# Altium footprint library WR-PHD_Pin Header.PcbLib: 232 footprints (part 12 of 15)
Each footprint in its own frame and in the unit in brackets; x right, y up, seen from the top. Pads: shape width x height; smd on the part's side, far side on the other; paste and mask are expansions set on the pad; w line width, h text height; cw(c..) or ccw(c..) is an arc to the next point about the centre after c.
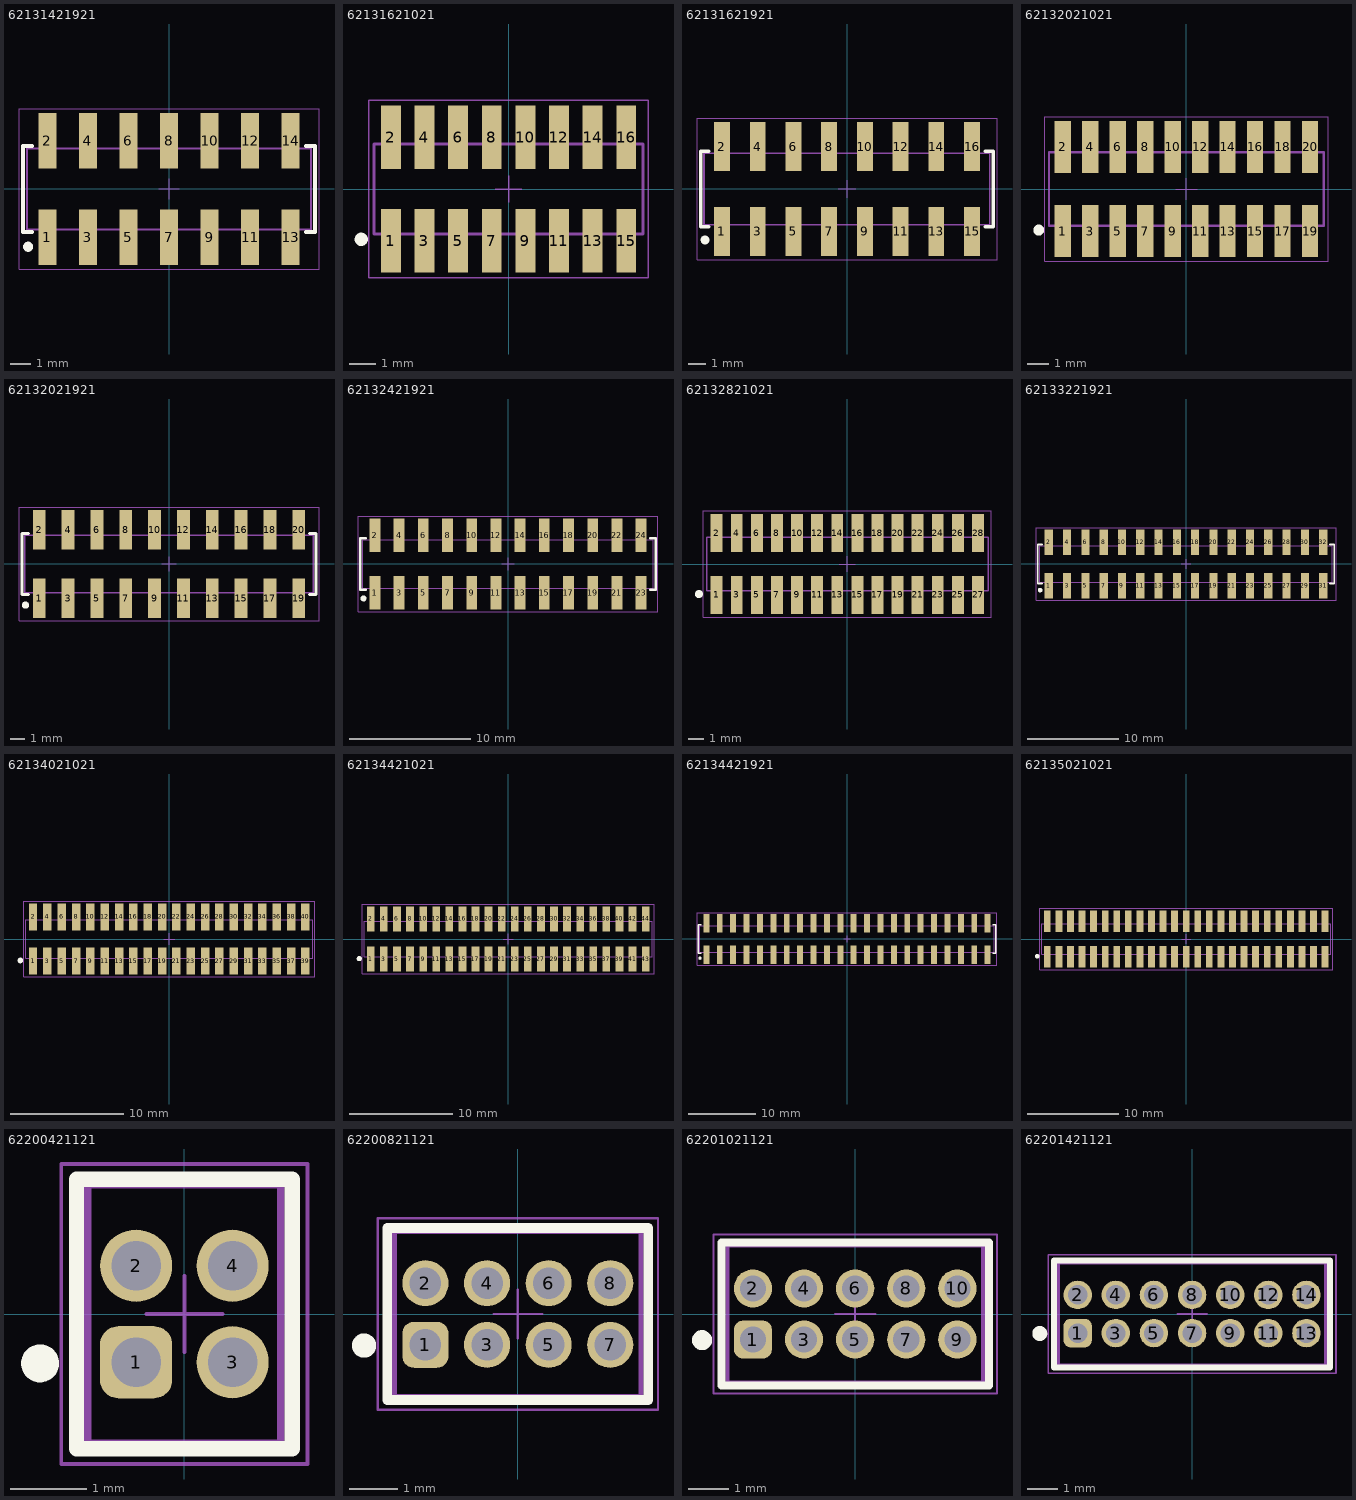
[diagram p11: the footprints below, top view; thin cyan lines are the x and y axes]

## 62131421921 [mm] "Pin Header, pitch 2.00 mm, SMD, Vertical, dual row, 14p"
height 6.8
pads (14):
  rect 0.89x2.75 smd: 1(-6,-2.375) 2(-6,2.375) 3(-4,-2.375) 4(-4,2.375) 5(-2,-2.375) 6(-2,2.375) 7(0,-2.375) 8(0,2.375) 9(2,-2.375) 10(2,2.375) 11(4,-2.375) 12(4,2.375) 13(6,-2.375) 14(6,2.375)
Top Overlay:
  circle w0.25: c-6.95,-2.85 r0.125
  lines w0.2: -6.75,-2.125 -7.2,-2.125 -7.2,2.125 -6.75,2.125 ; 6.75,-2.125 7.2,-2.125 7.2,2.125 6.75,2.125
Top Designator:
  text ".Designator" at -7.498,-0.5 h1.5
Top Component Outline:
  lines w0.1: -6.25,-2 -6.25,-3.1 -5.75,-3.1 -5.75,-2 ; -6.25,2 -6.25,3.1 -5.75,3.1 -5.75,2 ; -4.25,-2 -4.25,-3.1 -3.75,-3.1 -3.75,-2 ; -4.25,2 -4.25,3.1 -3.75,3.1 -3.75,2 ; -2.25,-2 -2.25,-3.1 -1.75,-3.1 -1.75,-2 ; -2.25,2 -2.25,3.1 -1.75,3.1 -1.75,2 ; -0.25,-2 -0.25,-3.1 0.25,-3.1 0.25,-2 ; -0.25,2 -0.25,3.1 0.25,3.1 0.25,2 ; 1.75,-2 1.75,-3.1 2.25,-3.1 2.25,-2 ; 1.75,2 1.75,3.1 2.25,3.1 2.25,2 ; 3.75,-2 3.75,-3.1 4.25,-3.1 4.25,-2 ; 3.75,2 3.75,3.1 4.25,3.1 4.25,2 ; 5.75,-2 5.75,-3.1 6.25,-3.1 6.25,-2 ; 5.75,2 5.75,3.1 6.25,3.1 6.25,2 ; -7,-2 7,-2 7,2 -7,2 -7,-2
Top Courtyard:
  lines w0.05: -7.4,-3.95 -7.4,3.95 7.4,3.95 7.4,-3.95 -7.4,-3.95
Top Component Center:
  lines w0.05: -0.5,0 0.5,0 ; 0,-0.5 0,0.5
3D body "62131421921.stp": height 6.7, standoff 0, extent -7,-3.1 7,3.1

## 62131621021 [mm] "Pin Header, pitch 1.27 mm, SMD, Vertical, dual row, 16p"
height 6.1
pads (16):
  rect 0.75x2.4 smd: 1(-4.445,-1.95) 2(-4.445,1.95) 3(-3.175,-1.95) 4(-3.175,1.95) 5(-1.905,-1.95) 6(-1.905,1.95) 7(-0.635,-1.95) 8(-0.635,1.95) 9(0.635,-1.95) 10(0.635,1.95) 11(1.905,-1.95) 12(1.905,1.95) 13(3.175,-1.95) 14(3.175,1.95) 15(4.445,-1.95) 16(4.445,1.95)
Top Overlay:
  circle w0.25: c-5.56,-1.9 r0.125
Top Designator:
  text ".Designator" at -7.498,-0.5 h1.5
Top Component Outline:
  lines w0.1: -4.645,-1.7 -4.645,-2.5 -4.245,-2.5 -4.245,-1.7 ; -4.645,1.7 -4.645,2.5 -4.245,2.5 -4.245,1.7 ; -3.375,-1.7 -3.375,-2.5 -2.975,-2.5 -2.975,-1.7 ; -3.375,1.7 -3.375,2.5 -2.975,2.5 -2.975,1.7 ; -2.105,-1.7 -2.105,-2.5 -1.705,-2.5 -1.705,-1.7 ; -2.105,1.7 -2.105,2.5 -1.705,2.5 -1.705,1.7 ; -0.835,-1.7 -0.835,-2.5 -0.435,-2.5 -0.435,-1.7 ; -0.835,1.7 -0.835,2.5 -0.435,2.5 -0.435,1.7 ; 0.435,-1.7 0.435,-2.5 0.835,-2.5 0.835,-1.7 ; 0.435,1.7 0.435,2.5 0.835,2.5 0.835,1.7 ; 1.705,-1.7 1.705,-2.5 2.105,-2.5 2.105,-1.7 ; 1.705,1.7 1.705,2.5 2.105,2.5 2.105,1.7 ; 2.975,-1.7 2.975,-2.5 3.375,-2.5 3.375,-1.7 ; 2.975,1.7 2.975,2.5 3.375,2.5 3.375,1.7 ; 4.245,-1.7 4.245,-2.5 4.645,-2.5 4.645,-1.7 ; 4.245,1.7 4.245,2.5 4.645,2.5 4.645,1.7 ; -5.08,-1.7 -5.08,1.7 5.08,1.7 5.08,-1.7 -5.08,-1.7
Top Courtyard:
  lines w0.05: -5.28,-3.35 -5.28,3.35 5.28,3.35 5.28,-3.35 -5.28,-3.35
Top Component Center:
  lines w0.05: -0.5,0 0.5,0 ; 0,-0.5 0,0.5
3D body "62131621021.stp": height 5.9, standoff 0, extent -5.08,-2.55 5.08,2.55

## 62131621921 [mm] "Pin Header, pitch 2.00 mm, SMD, Vertical, dual row, 16p"
height 6.8
pads (16):
  rect 0.89x2.75 smd: 1(-7,-2.375) 2(-7,2.375) 3(-5,-2.375) 4(-5,2.375) 5(-3,-2.375) 6(-3,2.375) 7(-1,-2.375) 8(-1,2.375) 9(1,-2.375) 10(1,2.375) 11(3,-2.375) 12(3,2.375) 13(5,-2.375) 14(5,2.375) 15(7,-2.375) 16(7,2.375)
Top Overlay:
  circle w0.25: c-7.95,-2.85 r0.125
  lines w0.2: -7.75,-2.125 -8.2,-2.125 -8.2,2.125 -7.75,2.125 ; 7.75,-2.125 8.2,-2.125 8.2,2.125 7.75,2.125
Top Designator:
  text ".Designator" at -7.498,-0.5 h1.5
Top Component Outline:
  lines w0.1: -7.25,-2 -7.25,-3.1 -6.75,-3.1 -6.75,-2 ; -7.25,2 -7.25,3.1 -6.75,3.1 -6.75,2 ; -5.25,-2 -5.25,-3.1 -4.75,-3.1 -4.75,-2 ; -5.25,2 -5.25,3.1 -4.75,3.1 -4.75,2 ; -3.25,-2 -3.25,-3.1 -2.75,-3.1 -2.75,-2 ; -3.25,2 -3.25,3.1 -2.75,3.1 -2.75,2 ; -1.25,-2 -1.25,-3.1 -0.75,-3.1 -0.75,-2 ; -1.25,2 -1.25,3.1 -0.75,3.1 -0.75,2 ; 0.75,-2 0.75,-3.1 1.25,-3.1 1.25,-2 ; 0.75,2 0.75,3.1 1.25,3.1 1.25,2 ; 2.75,-2 2.75,-3.1 3.25,-3.1 3.25,-2 ; 2.75,2 2.75,3.1 3.25,3.1 3.25,2 ; 4.75,-2 4.75,-3.1 5.25,-3.1 5.25,-2 ; 4.75,2 4.75,3.1 5.25,3.1 5.25,2 ; 6.75,-2 6.75,-3.1 7.25,-3.1 7.25,-2 ; 6.75,2 6.75,3.1 7.25,3.1 7.25,2 ; -8,-2 8,-2 8,2 -8,2 -8,-2
Top Courtyard:
  lines w0.05: -8.4,-3.95 -8.4,3.95 8.4,3.95 8.4,-3.95 -8.4,-3.95
Top Component Center:
  lines w0.05: -0.5,0 0.5,0 ; 0,-0.5 0,0.5
3D body "62131621921.stp": height 6.7, standoff 0, extent -8,-3.1 8,3.1

## 62132021021 [mm] "Pin Header, pitch 1.27 mm, SMD, Vertical, dual row, 20p"
height 6.1
pads (20):
  rect 0.75x2.4 smd: 1(-5.715,-1.95) 2(-5.715,1.95) 3(-4.445,-1.95) 4(-4.445,1.95) 5(-3.175,-1.95) 6(-3.175,1.95) 7(-1.905,-1.95) 8(-1.905,1.95) 9(-0.635,-1.95) 10(-0.635,1.95) 11(0.635,-1.95) 12(0.635,1.95) 13(1.905,-1.95) 14(1.905,1.95) 15(3.175,-1.95) 16(3.175,1.95) 17(4.445,-1.95) 18(4.445,1.95) 19(5.715,-1.95) 20(5.715,1.95)
Top Overlay:
  circle w0.25: c-6.83,-1.9 r0.125
Top Designator:
  text ".Designator" at -7.498,-0.5 h1.5
Top Component Outline:
  lines w0.1: -5.915,-1.7 -5.915,-2.5 -5.515,-2.5 -5.515,-1.7 ; -5.915,1.7 -5.915,2.5 -5.515,2.5 -5.515,1.7 ; -4.645,-1.7 -4.645,-2.5 -4.245,-2.5 -4.245,-1.7 ; -4.645,1.7 -4.645,2.5 -4.245,2.5 -4.245,1.7 ; -3.375,-1.7 -3.375,-2.5 -2.975,-2.5 -2.975,-1.7 ; -3.375,1.7 -3.375,2.5 -2.975,2.5 -2.975,1.7 ; -2.105,-1.7 -2.105,-2.5 -1.705,-2.5 -1.705,-1.7 ; -2.105,1.7 -2.105,2.5 -1.705,2.5 -1.705,1.7 ; -0.835,-1.7 -0.835,-2.5 -0.435,-2.5 -0.435,-1.7 ; -0.835,1.7 -0.835,2.5 -0.435,2.5 -0.435,1.7 ; 0.435,-1.7 0.435,-2.5 0.835,-2.5 0.835,-1.7 ; 0.435,1.7 0.435,2.5 0.835,2.5 0.835,1.7 ; 1.705,-1.7 1.705,-2.5 2.105,-2.5 2.105,-1.7 ; 1.705,1.7 1.705,2.5 2.105,2.5 2.105,1.7 ; 2.975,-1.7 2.975,-2.5 3.375,-2.5 3.375,-1.7 ; 2.975,1.7 2.975,2.5 3.375,2.5 3.375,1.7 ; 4.245,-1.7 4.245,-2.5 4.645,-2.5 4.645,-1.7 ; 4.245,1.7 4.245,2.5 4.645,2.5 4.645,1.7 ; 5.515,-1.7 5.515,-2.5 5.915,-2.5 5.915,-1.7 ; 5.515,1.7 5.515,2.5 5.915,2.5 5.915,1.7 ; -6.35,-1.7 6.35,-1.7 6.35,1.7 -6.35,1.7 -6.35,-1.7
Top Courtyard:
  lines w0.05: -6.55,-3.35 6.55,-3.35 6.55,3.35 -6.55,3.35 -6.55,-3.35
Top Component Center:
  lines w0.05: -0.5,0 0.5,0 ; 0,-0.5 0,0.5
3D body "62132021021.stp": height 5.9, standoff 0, extent -6.35,-2.55 6.35,2.55

## 62132021921 [mm] "Pin Header, pitch 2.00 mm, SMD, Vertical, dual row, 20p"
height 6.8
pads (20):
  rect 0.89x2.75 smd: 1(-9,-2.375) 2(-9,2.375) 3(-7,-2.375) 4(-7,2.375) 5(-5,-2.375) 6(-5,2.375) 7(-3,-2.375) 8(-3,2.375) 9(-1,-2.375) 10(-1,2.375) 11(1,-2.375) 12(1,2.375) 13(3,-2.375) 14(3,2.375) 15(5,-2.375) 16(5,2.375) 17(7,-2.375) 18(7,2.375) 19(9,-2.375) 20(9,2.375)
Top Overlay:
  circle w0.25: c-9.95,-2.85 r0.125
  lines w0.2: -9.75,-2.125 -10.2,-2.125 -10.2,2.125 -9.75,2.125 ; 9.75,-2.125 10.2,-2.125 10.2,2.125 9.75,2.125
Top Designator:
  text ".Designator" at -7.498,-0.5 h1.5
Top Component Outline:
  lines w0.1: -9.25,-2 -9.25,-3.1 -8.75,-3.1 -8.75,-2 ; -9.25,2 -9.25,3.1 -8.75,3.1 -8.75,2 ; -7.25,-2 -7.25,-3.1 -6.75,-3.1 -6.75,-2 ; -7.25,2 -7.25,3.1 -6.75,3.1 -6.75,2 ; -5.25,-2 -5.25,-3.1 -4.75,-3.1 -4.75,-2 ; -5.25,2 -5.25,3.1 -4.75,3.1 -4.75,2 ; -3.25,-2 -3.25,-3.1 -2.75,-3.1 -2.75,-2 ; -3.25,2 -3.25,3.1 -2.75,3.1 -2.75,2 ; -1.25,-2 -1.25,-3.1 -0.75,-3.1 -0.75,-2 ; -1.25,2 -1.25,3.1 -0.75,3.1 -0.75,2 ; 0.75,-2 0.75,-3.1 1.25,-3.1 1.25,-2 ; 0.75,2 0.75,3.1 1.25,3.1 1.25,2 ; 2.75,-2 2.75,-3.1 3.25,-3.1 3.25,-2 ; 2.75,2 2.75,3.1 3.25,3.1 3.25,2 ; 4.75,-2 4.75,-3.1 5.25,-3.1 5.25,-2 ; 4.75,2 4.75,3.1 5.25,3.1 5.25,2 ; 6.75,-2 6.75,-3.1 7.25,-3.1 7.25,-2 ; 6.75,2 6.75,3.1 7.25,3.1 7.25,2 ; 8.75,-2 8.75,-3.1 9.25,-3.1 9.25,-2 ; 8.75,2 8.75,3.1 9.25,3.1 9.25,2 ; -10,-2 10,-2 10,2 -10,2 -10,-2
Top Courtyard:
  lines w0.05: -10.4,-3.95 -10.4,3.95 10.4,3.95 10.4,-3.95 -10.4,-3.95
Top Component Center:
  lines w0.05: -0.5,0 0.5,0 ; 0,-0.5 0,0.5
3D body "62132021921.stp": height 6.7, standoff 0, extent -10,-3.1 10,3.1

## 62132421921 [mm] "Pin Header, pitch 2.00 mm, SMD, Vertical, dual row, 24p"
height 6.8
pads (24):
  rect 0.89x2.75 smd: 1(-11,-2.375) 2(-11,2.375) 3(-9,-2.375) 4(-9,2.375) 5(-7,-2.375) 6(-7,2.375) 7(-5,-2.375) 8(-5,2.375) 9(-3,-2.375) 10(-3,2.375) 11(-1,-2.375) 12(-1,2.375) 13(1,-2.375) 14(1,2.375) 15(3,-2.375) 16(3,2.375) 17(5,-2.375) 18(5,2.375) 19(7,-2.375) 20(7,2.375) 21(9,-2.375) 22(9,2.375) 23(11,-2.375) 24(11,2.375)
Top Overlay:
  circle w0.25: c-11.95,-2.85 r0.125
  lines w0.2: -11.75,-2.125 -12.2,-2.125 -12.2,2.125 -11.75,2.125 ; 11.75,-2.125 12.2,-2.125 12.2,2.125 11.75,2.125
Top Designator:
  text ".Designator" at -7.498,-0.5 h1.5
Top Component Outline:
  lines w0.1: -11.25,-2 -11.25,-3.1 -10.75,-3.1 -10.75,-2 ; -11.25,2 -11.25,3.1 -10.75,3.1 -10.75,2 ; -9.25,-2 -9.25,-3.1 -8.75,-3.1 -8.75,-2 ; -9.25,2 -9.25,3.1 -8.75,3.1 -8.75,2 ; -7.25,-2 -7.25,-3.1 -6.75,-3.1 -6.75,-2 ; -7.25,2 -7.25,3.1 -6.75,3.1 -6.75,2 ; -5.25,-2 -5.25,-3.1 -4.75,-3.1 -4.75,-2 ; -5.25,2 -5.25,3.1 -4.75,3.1 -4.75,2 ; -3.25,-2 -3.25,-3.1 -2.75,-3.1 -2.75,-2 ; -3.25,2 -3.25,3.1 -2.75,3.1 -2.75,2 ; -1.25,-2 -1.25,-3.1 -0.75,-3.1 -0.75,-2 ; -1.25,2 -1.25,3.1 -0.75,3.1 -0.75,2 ; 0.75,-2 0.75,-3.1 1.25,-3.1 1.25,-2 ; 0.75,2 0.75,3.1 1.25,3.1 1.25,2 ; 2.75,-2 2.75,-3.1 3.25,-3.1 3.25,-2 ; 2.75,2 2.75,3.1 3.25,3.1 3.25,2 ; 4.75,-2 4.75,-3.1 5.25,-3.1 5.25,-2 ; 4.75,2 4.75,3.1 5.25,3.1 5.25,2 ; 6.75,-2 6.75,-3.1 7.25,-3.1 7.25,-2 ; 6.75,2 6.75,3.1 7.25,3.1 7.25,2 ; 8.75,-2 8.75,-3.1 9.25,-3.1 9.25,-2 ; 8.75,2 8.75,3.1 9.25,3.1 9.25,2 ; 10.75,-2 10.75,-3.1 11.25,-3.1 11.25,-2 ; 10.75,2 10.75,3.1 11.25,3.1 11.25,2 ; -12,-2 12,-2 12,2 -12,2 -12,-2
Top Courtyard:
  lines w0.05: -12.4,-3.95 -12.4,3.95 12.4,3.95 12.4,-3.95 -12.4,-3.95
Top Component Center:
  lines w0.05: -0.5,0 0.5,0 ; 0,-0.5 0,0.5
3D body "62132421921.stp": height 6.7, standoff 0, extent -12,-3.1 12,3.1

## 62132821021 [mm] "Pin Header, pitch 1.27 mm, SMD, Vertical, dual row, 28p"
height 6.1
pads (28):
  rect 0.75x2.4 smd: 1(-8.255,-1.95) 2(-8.255,1.95) 3(-6.985,-1.95) 4(-6.985,1.95) 5(-5.715,-1.95) 6(-5.715,1.95) 7(-4.445,-1.95) 8(-4.445,1.95) 9(-3.175,-1.95) 10(-3.175,1.95) 11(-1.905,-1.95) 12(-1.905,1.95) 13(-0.635,-1.95) 14(-0.635,1.95) 15(0.635,-1.95) 16(0.635,1.95) 17(1.905,-1.95) 18(1.905,1.95) 19(3.175,-1.95) 20(3.175,1.95) 21(4.445,-1.95) 22(4.445,1.95) 23(5.715,-1.95) 24(5.715,1.95) 25(6.985,-1.95) 26(6.985,1.95) 27(8.255,-1.95) 28(8.255,1.95)
Top Overlay:
  circle w0.25: c-9.37,-1.9 r0.125
Top Designator:
  text ".Designator" at -7.498,-0.5 h1.5
Top Component Outline:
  lines w0.1: -8.455,-1.7 -8.455,-2.5 -8.055,-2.5 -8.055,-1.7 ; -8.455,1.7 -8.455,2.5 -8.055,2.5 -8.055,1.7 ; -7.185,-1.7 -7.185,-2.5 -6.785,-2.5 -6.785,-1.7 ; -7.185,1.7 -7.185,2.5 -6.785,2.5 -6.785,1.7 ; -5.915,-1.7 -5.915,-2.5 -5.515,-2.5 -5.515,-1.7 ; -5.915,1.7 -5.915,2.5 -5.515,2.5 -5.515,1.7 ; -4.645,-1.7 -4.645,-2.5 -4.245,-2.5 -4.245,-1.7 ; -4.645,1.7 -4.645,2.5 -4.245,2.5 -4.245,1.7 ; -3.375,-1.7 -3.375,-2.5 -2.975,-2.5 -2.975,-1.7 ; -3.375,1.7 -3.375,2.5 -2.975,2.5 -2.975,1.7 ; -2.105,-1.7 -2.105,-2.5 -1.705,-2.5 -1.705,-1.7 ; -2.105,1.7 -2.105,2.5 -1.705,2.5 -1.705,1.7 ; -0.835,-1.7 -0.835,-2.5 -0.435,-2.5 -0.435,-1.7 ; -0.835,1.7 -0.835,2.5 -0.435,2.5 -0.435,1.7 ; 0.435,-1.7 0.435,-2.5 0.835,-2.5 0.835,-1.7 ; 0.435,1.7 0.435,2.5 0.835,2.5 0.835,1.7 ; 1.705,-1.7 1.705,-2.5 2.105,-2.5 2.105,-1.7 ; 1.705,1.7 1.705,2.5 2.105,2.5 2.105,1.7 ; 2.975,-1.7 2.975,-2.5 3.375,-2.5 3.375,-1.7 ; 2.975,1.7 2.975,2.5 3.375,2.5 3.375,1.7 ; 4.245,-1.7 4.245,-2.5 4.645,-2.5 4.645,-1.7 ; 4.245,1.7 4.245,2.5 4.645,2.5 4.645,1.7 ; 5.515,-1.7 5.515,-2.5 5.915,-2.5 5.915,-1.7 ; 5.515,1.7 5.515,2.5 5.915,2.5 5.915,1.7 ; 6.785,-1.7 6.785,-2.5 7.185,-2.5 7.185,-1.7 ; 6.785,1.7 6.785,2.5 7.185,2.5 7.185,1.7 ; 8.055,-1.7 8.055,-2.5 8.455,-2.5 8.455,-1.7 ; 8.055,1.7 8.055,2.5 8.455,2.5 8.455,1.7 ; -8.89,-1.7 8.89,-1.7 8.89,1.7 -8.89,1.7 -8.89,-1.7
Top Courtyard:
  lines w0.05: -9.09,-3.35 9.09,-3.35 9.09,3.35 -9.09,3.35 -9.09,-3.35
Top Component Center:
  lines w0.05: -0.5,0 0.5,0 ; 0,-0.5 0,0.5
3D body "62132821021.stp": height 5.9, standoff 0, extent -8.89,-2.55 8.89,2.55

## 62133221921 [mm] "Pin Header, pitch 2.00 mm, SMD, Vertical, dual row, 32p"
height 6.8
pads (32):
  rect 0.89x2.75 smd: 1(-15,-2.375) 2(-15,2.375) 3(-13,-2.375) 4(-13,2.375) 5(-11,-2.375) 6(-11,2.375) 7(-9,-2.375) 8(-9,2.375) 9(-7,-2.375) 10(-7,2.375) 11(-5,-2.375) 12(-5,2.375) 13(-3,-2.375) 14(-3,2.375) 15(-1,-2.375) 16(-1,2.375) 17(1,-2.375) 18(1,2.375) 19(3,-2.375) 20(3,2.375) 21(5,-2.375) 22(5,2.375) 23(7,-2.375) 24(7,2.375) 25(9,-2.375) 26(9,2.375) 27(11,-2.375) 28(11,2.375) 29(13,-2.375) 30(13,2.375) 31(15,-2.375) 32(15,2.375)
Top Overlay:
  circle w0.25: c-15.95,-2.85 r0.125
  lines w0.2: -15.75,-2.125 -16.2,-2.125 -16.2,2.125 -15.75,2.125 ; 15.75,-2.125 16.2,-2.125 16.2,2.125 15.75,2.125
Top Designator:
  text ".Designator" at -7.498,-0.5 h1.5
Top Component Outline:
  lines w0.1: -15.25,-2 -15.25,-3.1 -14.75,-3.1 -14.75,-2 ; -15.25,2 -15.25,3.1 -14.75,3.1 -14.75,2 ; -13.25,-2 -13.25,-3.1 -12.75,-3.1 -12.75,-2 ; -13.25,2 -13.25,3.1 -12.75,3.1 -12.75,2 ; -11.25,-2 -11.25,-3.1 -10.75,-3.1 -10.75,-2 ; -11.25,2 -11.25,3.1 -10.75,3.1 -10.75,2 ; -9.25,-2 -9.25,-3.1 -8.75,-3.1 -8.75,-2 ; -9.25,2 -9.25,3.1 -8.75,3.1 -8.75,2 ; -7.25,-2 -7.25,-3.1 -6.75,-3.1 -6.75,-2 ; -7.25,2 -7.25,3.1 -6.75,3.1 -6.75,2 ; -5.25,-2 -5.25,-3.1 -4.75,-3.1 -4.75,-2 ; -5.25,2 -5.25,3.1 -4.75,3.1 -4.75,2 ; -3.25,-2 -3.25,-3.1 -2.75,-3.1 -2.75,-2 ; -3.25,2 -3.25,3.1 -2.75,3.1 -2.75,2 ; -1.25,-2 -1.25,-3.1 -0.75,-3.1 -0.75,-2 ; -1.25,2 -1.25,3.1 -0.75,3.1 -0.75,2 ; 0.75,-2 0.75,-3.1 1.25,-3.1 1.25,-2 ; 0.75,2 0.75,3.1 1.25,3.1 1.25,2 ; 2.75,-2 2.75,-3.1 3.25,-3.1 3.25,-2 ; 2.75,2 2.75,3.1 3.25,3.1 3.25,2 ; 4.75,-2 4.75,-3.1 5.25,-3.1 5.25,-2 ; 4.75,2 4.75,3.1 5.25,3.1 5.25,2 ; 6.75,-2 6.75,-3.1 7.25,-3.1 7.25,-2 ; 6.75,2 6.75,3.1 7.25,3.1 7.25,2 ; 8.75,-2 8.75,-3.1 9.25,-3.1 9.25,-2 ; 8.75,2 8.75,3.1 9.25,3.1 9.25,2 ; 10.75,-2 10.75,-3.1 11.25,-3.1 11.25,-2 ; 10.75,2 10.75,3.1 11.25,3.1 11.25,2 ; 12.75,-2 12.75,-3.1 13.25,-3.1 13.25,-2 ; 12.75,2 12.75,3.1 13.25,3.1 13.25,2 ; 14.75,-2 14.75,-3.1 15.25,-3.1 15.25,-2 ; 14.75,2 14.75,3.1 15.25,3.1 15.25,2 ; -16,-2 16,-2 16,2 -16,2 -16,-2
Top Courtyard:
  lines w0.05: -16.4,-3.95 -16.4,3.95 16.4,3.95 16.4,-3.95 -16.4,-3.95
Top Component Center:
  lines w0.05: -0.5,0 0.5,0 ; 0,-0.5 0,0.5
3D body "62133221921.stp": height 6.7, standoff 0, extent -16,-3.1 16,3.1

## 62134021021 [mm] "Pin Header, pitch 1.27 mm, SMD, Vertical, dual row, 40p"
height 6.1
pads (40):
  rect 0.75x2.4 smd: 1(-12.065,-1.95) 2(-12.065,1.95) 3(-10.795,-1.95) 4(-10.795,1.95) 5(-9.525,-1.95) 6(-9.525,1.95) 7(-8.255,-1.95) 8(-8.255,1.95) 9(-6.985,-1.95) 10(-6.985,1.95) 11(-5.715,-1.95) 12(-5.715,1.95) 13(-4.445,-1.95) 14(-4.445,1.95) 15(-3.175,-1.95) 16(-3.175,1.95) 17(-1.905,-1.95) 18(-1.905,1.95) 19(-0.635,-1.95) 20(-0.635,1.95) 21(0.635,-1.95) 22(0.635,1.95) 23(1.905,-1.95) 24(1.905,1.95) 25(3.175,-1.95) 26(3.175,1.95) 27(4.445,-1.95) 28(4.445,1.95) 29(5.715,-1.95) 30(5.715,1.95) 31(6.985,-1.95) 32(6.985,1.95) 33(8.255,-1.95) 34(8.255,1.95) 35(9.525,-1.95) 36(9.525,1.95) 37(10.795,-1.95) 38(10.795,1.95) 39(12.065,-1.95) 40(12.065,1.95)
Top Overlay:
  circle w0.25: c-13.18,-1.9 r0.125
Top Designator:
  text ".Designator" at -7.498,-0.5 h1.5
Top Component Outline:
  lines w0.1: -12.265,-1.7 -12.265,-2.5 -11.865,-2.5 -11.865,-1.7 ; -12.265,1.7 -12.265,2.5 -11.865,2.5 -11.865,1.7 ; -10.995,-1.7 -10.995,-2.5 -10.595,-2.5 -10.595,-1.7 ; -10.995,1.7 -10.995,2.5 -10.595,2.5 -10.595,1.7 ; -9.725,-1.7 -9.725,-2.5 -9.325,-2.5 -9.325,-1.7 ; -9.725,1.7 -9.725,2.5 -9.325,2.5 -9.325,1.7 ; -8.455,-1.7 -8.455,-2.5 -8.055,-2.5 -8.055,-1.7 ; -8.455,1.7 -8.455,2.5 -8.055,2.5 -8.055,1.7 ; -7.185,-1.7 -7.185,-2.5 -6.785,-2.5 -6.785,-1.7 ; -7.185,1.7 -7.185,2.5 -6.785,2.5 -6.785,1.7 ; -5.915,-1.7 -5.915,-2.5 -5.515,-2.5 -5.515,-1.7 ; -5.915,1.7 -5.915,2.5 -5.515,2.5 -5.515,1.7 ; -4.645,-1.7 -4.645,-2.5 -4.245,-2.5 -4.245,-1.7 ; -4.645,1.7 -4.645,2.5 -4.245,2.5 -4.245,1.7 ; -3.375,-1.7 -3.375,-2.5 -2.975,-2.5 -2.975,-1.7 ; -3.375,1.7 -3.375,2.5 -2.975,2.5 -2.975,1.7 ; -2.105,-1.7 -2.105,-2.5 -1.705,-2.5 -1.705,-1.7 ; -2.105,1.7 -2.105,2.5 -1.705,2.5 -1.705,1.7 ; -0.835,-1.7 -0.835,-2.5 -0.435,-2.5 -0.435,-1.7 ; -0.835,1.7 -0.835,2.5 -0.435,2.5 -0.435,1.7 ; 0.435,-1.7 0.435,-2.5 0.835,-2.5 0.835,-1.7 ; 0.435,1.7 0.435,2.5 0.835,2.5 0.835,1.7 ; 1.705,-1.7 1.705,-2.5 2.105,-2.5 2.105,-1.7 ; 1.705,1.7 1.705,2.5 2.105,2.5 2.105,1.7 ; 2.975,-1.7 2.975,-2.5 3.375,-2.5 3.375,-1.7 ; 2.975,1.7 2.975,2.5 3.375,2.5 3.375,1.7 ; 4.245,-1.7 4.245,-2.5 4.645,-2.5 4.645,-1.7 ; 4.245,1.7 4.245,2.5 4.645,2.5 4.645,1.7 ; 5.515,-1.7 5.515,-2.5 5.915,-2.5 5.915,-1.7 ; 5.515,1.7 5.515,2.5 5.915,2.5 5.915,1.7 ; 6.785,-1.7 6.785,-2.5 7.185,-2.5 7.185,-1.7 ; 6.785,1.7 6.785,2.5 7.185,2.5 7.185,1.7 ; 8.055,-1.7 8.055,-2.5 8.455,-2.5 8.455,-1.7 ; 8.055,1.7 8.055,2.5 8.455,2.5 8.455,1.7 ; 9.325,-1.7 9.325,-2.5 9.725,-2.5 9.725,-1.7 ; 9.325,1.7 9.325,2.5 9.725,2.5 9.725,1.7 ; 10.595,-1.7 10.595,-2.5 10.995,-2.5 10.995,-1.7 ; 10.595,1.7 10.595,2.5 10.995,2.5 10.995,1.7 ; 11.865,-1.7 11.865,-2.5 12.265,-2.5 12.265,-1.7 ; 11.865,1.7 11.865,2.5 12.265,2.5 12.265,1.7 ; -12.7,-1.7 -12.7,1.7 12.7,1.7 12.7,-1.7 -12.7,-1.7
Top Courtyard:
  lines w0.05: -12.9,-3.35 -12.9,3.35 12.9,3.35 12.9,-3.35 -12.9,-3.35
Top Component Center:
  lines w0.05: -0.5,0 0.5,0 ; 0,-0.5 0,0.5
3D body "62134021021.stp": height 5.9, standoff 0, extent -12.7,-2.55 12.7,2.55

## 62134421021 [mm] "Pin Header, pitch 1.27 mm, SMD, Vertical, dual row, 44p"
height 6.1
pads (44):
  rect 0.75x2.4 smd: 1(-13.335,-1.95) 2(-13.335,1.95) 3(-12.065,-1.95) 4(-12.065,1.95) 5(-10.795,-1.95) 6(-10.795,1.95) 7(-9.525,-1.95) 8(-9.525,1.95) 9(-8.255,-1.95) 10(-8.255,1.95) 11(-6.985,-1.95) 12(-6.985,1.95) 13(-5.715,-1.95) 14(-5.715,1.95) 15(-4.445,-1.95) 16(-4.445,1.95) 17(-3.175,-1.95) 18(-3.175,1.95) 19(-1.905,-1.95) 20(-1.905,1.95) 21(-0.635,-1.95) 22(-0.635,1.95) 23(0.635,-1.95) 24(0.635,1.95) 25(1.905,-1.95) 26(1.905,1.95) 27(3.175,-1.95) 28(3.175,1.95) 29(4.445,-1.95) 30(4.445,1.95) 31(5.715,-1.95) 32(5.715,1.95) 33(6.985,-1.95) 34(6.985,1.95) 35(8.255,-1.95) 36(8.255,1.95) 37(9.525,-1.95) 38(9.525,1.95) 39(10.795,-1.95) 40(10.795,1.95) 41(12.065,-1.95) 42(12.065,1.95) 43(13.335,-1.95) 44(13.335,1.95)
Top Overlay:
  circle w0.25: c-14.45,-1.9 r0.125
Top Designator:
  text ".Designator" at -7.498,-0.5 h1.5
Top Component Outline:
  lines w0.1: -13.535,-1.7 -13.535,-2.5 -13.135,-2.5 -13.135,-1.7 ; -13.535,1.7 -13.535,2.5 -13.135,2.5 -13.135,1.7 ; -12.265,-1.7 -12.265,-2.5 -11.865,-2.5 -11.865,-1.7 ; -12.265,1.7 -12.265,2.5 -11.865,2.5 -11.865,1.7 ; -10.995,-1.7 -10.995,-2.5 -10.595,-2.5 -10.595,-1.7 ; -10.995,1.7 -10.995,2.5 -10.595,2.5 -10.595,1.7 ; -9.725,-1.7 -9.725,-2.5 -9.325,-2.5 -9.325,-1.7 ; -9.725,1.7 -9.725,2.5 -9.325,2.5 -9.325,1.7 ; -8.455,-1.7 -8.455,-2.5 -8.055,-2.5 -8.055,-1.7 ; -8.455,1.7 -8.455,2.5 -8.055,2.5 -8.055,1.7 ; -7.185,-1.7 -7.185,-2.5 -6.785,-2.5 -6.785,-1.7 ; -7.185,1.7 -7.185,2.5 -6.785,2.5 -6.785,1.7 ; -5.915,-1.7 -5.915,-2.5 -5.515,-2.5 -5.515,-1.7 ; -5.915,1.7 -5.915,2.5 -5.515,2.5 -5.515,1.7 ; -4.645,-1.7 -4.645,-2.5 -4.245,-2.5 -4.245,-1.7 ; -4.645,1.7 -4.645,2.5 -4.245,2.5 -4.245,1.7 ; -3.375,-1.7 -3.375,-2.5 -2.975,-2.5 -2.975,-1.7 ; -3.375,1.7 -3.375,2.5 -2.975,2.5 -2.975,1.7 ; -2.105,-1.7 -2.105,-2.5 -1.705,-2.5 -1.705,-1.7 ; -2.105,1.7 -2.105,2.5 -1.705,2.5 -1.705,1.7 ; -0.835,-1.7 -0.835,-2.5 -0.435,-2.5 -0.435,-1.7 ; -0.835,1.7 -0.835,2.5 -0.435,2.5 -0.435,1.7 ; 0.435,-1.7 0.435,-2.5 0.835,-2.5 0.835,-1.7 ; 0.435,1.7 0.435,2.5 0.835,2.5 0.835,1.7 ; 1.705,-1.7 1.705,-2.5 2.105,-2.5 2.105,-1.7 ; 1.705,1.7 1.705,2.5 2.105,2.5 2.105,1.7 ; 2.975,-1.7 2.975,-2.5 3.375,-2.5 3.375,-1.7 ; 2.975,1.7 2.975,2.5 3.375,2.5 3.375,1.7 ; 4.245,-1.7 4.245,-2.5 4.645,-2.5 4.645,-1.7 ; 4.245,1.7 4.245,2.5 4.645,2.5 4.645,1.7 ; 5.515,-1.7 5.515,-2.5 5.915,-2.5 5.915,-1.7 ; 5.515,1.7 5.515,2.5 5.915,2.5 5.915,1.7 ; 6.785,-1.7 6.785,-2.5 7.185,-2.5 7.185,-1.7 ; 6.785,1.7 6.785,2.5 7.185,2.5 7.185,1.7 ; 8.055,-1.7 8.055,-2.5 8.455,-2.5 8.455,-1.7 ; 8.055,1.7 8.055,2.5 8.455,2.5 8.455,1.7 ; 9.325,-1.7 9.325,-2.5 9.725,-2.5 9.725,-1.7 ; 9.325,1.7 9.325,2.5 9.725,2.5 9.725,1.7 ; 10.595,-1.7 10.595,-2.5 10.995,-2.5 10.995,-1.7 ; 10.595,1.7 10.595,2.5 10.995,2.5 10.995,1.7 ; 11.865,-1.7 11.865,-2.5 12.265,-2.5 12.265,-1.7 ; 11.865,1.7 11.865,2.5 12.265,2.5 12.265,1.7 ; 13.135,-1.7 13.135,-2.5 13.535,-2.5 13.535,-1.7 ; 13.135,1.7 13.135,2.5 13.535,2.5 13.535,1.7 ; -13.97,-1.7 -13.97,1.7 13.97,1.7 13.97,-1.7 -13.97,-1.7
Top Courtyard:
  lines w0.05: -14.17,-3.35 -14.17,3.35 14.17,3.35 14.17,-3.35 -14.17,-3.35
Top Component Center:
  lines w0.05: -0.5,0 0.5,0 ; 0,-0.5 0,0.5
3D body "62134421021.stp": height 5.9, standoff 0, extent -13.97,-2.55 13.97,2.55

## 62134421921 [mm] "Pin Header, pitch 2.00 mm, SMD, Vertical, dual row, 44p"
height 6.8
pads (44):
  rect 0.89x2.75 smd: 1(-21,-2.375) 2(-21,2.375) 3(-19,-2.375) 4(-19,2.375) 5(-17,-2.375) 6(-17,2.375) 7(-15,-2.375) 8(-15,2.375) 9(-13,-2.375) 10(-13,2.375) 11(-11,-2.375) 12(-11,2.375) 13(-9,-2.375) 14(-9,2.375) 15(-7,-2.375) 16(-7,2.375) 17(-5,-2.375) 18(-5,2.375) 19(-3,-2.375) 20(-3,2.375) 21(-1,-2.375) 22(-1,2.375) 23(1,-2.375) 24(1,2.375) 25(3,-2.375) 26(3,2.375) 27(5,-2.375) 28(5,2.375) 29(7,-2.375) 30(7,2.375) 31(9,-2.375) 32(9,2.375) 33(11,-2.375) 34(11,2.375) 35(13,-2.375) 36(13,2.375) 37(15,-2.375) 38(15,2.375) 39(17,-2.375) 40(17,2.375) 41(19,-2.375) 42(19,2.375) 43(21,-2.375) 44(21,2.375)
Top Overlay:
  circle w0.25: c-21.95,-2.85 r0.125
  lines w0.2: -21.75,-2.125 -22.2,-2.125 -22.2,2.125 -21.75,2.125 ; 21.75,-2.125 22.2,-2.125 22.2,2.125 21.75,2.125
Top Designator:
  text ".Designator" at -7.498,-0.5 h1.5
Top Component Outline:
  lines w0.1: -21.25,-2 -21.25,-3.1 -20.75,-3.1 -20.75,-2 ; -21.25,2 -21.25,3.1 -20.75,3.1 -20.75,2 ; -19.25,-2 -19.25,-3.1 -18.75,-3.1 -18.75,-2 ; -19.25,2 -19.25,3.1 -18.75,3.1 -18.75,2 ; -17.25,-2 -17.25,-3.1 -16.75,-3.1 -16.75,-2 ; -17.25,2 -17.25,3.1 -16.75,3.1 -16.75,2 ; -15.25,-2 -15.25,-3.1 -14.75,-3.1 -14.75,-2 ; -15.25,2 -15.25,3.1 -14.75,3.1 -14.75,2 ; -13.25,-2 -13.25,-3.1 -12.75,-3.1 -12.75,-2 ; -13.25,2 -13.25,3.1 -12.75,3.1 -12.75,2 ; -11.25,-2 -11.25,-3.1 -10.75,-3.1 -10.75,-2 ; -11.25,2 -11.25,3.1 -10.75,3.1 -10.75,2 ; -9.25,-2 -9.25,-3.1 -8.75,-3.1 -8.75,-2 ; -9.25,2 -9.25,3.1 -8.75,3.1 -8.75,2 ; -7.25,-2 -7.25,-3.1 -6.75,-3.1 -6.75,-2 ; -7.25,2 -7.25,3.1 -6.75,3.1 -6.75,2 ; -5.25,-2 -5.25,-3.1 -4.75,-3.1 -4.75,-2 ; -5.25,2 -5.25,3.1 -4.75,3.1 -4.75,2 ; -3.25,-2 -3.25,-3.1 -2.75,-3.1 -2.75,-2 ; -3.25,2 -3.25,3.1 -2.75,3.1 -2.75,2 ; -1.25,-2 -1.25,-3.1 -0.75,-3.1 -0.75,-2 ; -1.25,2 -1.25,3.1 -0.75,3.1 -0.75,2 ; 0.75,-2 0.75,-3.1 1.25,-3.1 1.25,-2 ; 0.75,2 0.75,3.1 1.25,3.1 1.25,2 ; 2.75,-2 2.75,-3.1 3.25,-3.1 3.25,-2 ; 2.75,2 2.75,3.1 3.25,3.1 3.25,2 ; 4.75,-2 4.75,-3.1 5.25,-3.1 5.25,-2 ; 4.75,2 4.75,3.1 5.25,3.1 5.25,2 ; 6.75,-2 6.75,-3.1 7.25,-3.1 7.25,-2 ; 6.75,2 6.75,3.1 7.25,3.1 7.25,2 ; 8.75,-2 8.75,-3.1 9.25,-3.1 9.25,-2 ; 8.75,2 8.75,3.1 9.25,3.1 9.25,2 ; 10.75,-2 10.75,-3.1 11.25,-3.1 11.25,-2 ; 10.75,2 10.75,3.1 11.25,3.1 11.25,2 ; 12.75,-2 12.75,-3.1 13.25,-3.1 13.25,-2 ; 12.75,2 12.75,3.1 13.25,3.1 13.25,2 ; 14.75,-2 14.75,-3.1 15.25,-3.1 15.25,-2 ; 14.75,2 14.75,3.1 15.25,3.1 15.25,2 ; 16.75,-2 16.75,-3.1 17.25,-3.1 17.25,-2 ; 16.75,2 16.75,3.1 17.25,3.1 17.25,2 ; 18.75,-2 18.75,-3.1 19.25,-3.1 19.25,-2 ; 18.75,2 18.75,3.1 19.25,3.1 19.25,2 ; 20.75,-2 20.75,-3.1 21.25,-3.1 21.25,-2 ; 20.75,2 20.75,3.1 21.25,3.1 21.25,2 ; -22,-2 22,-2 22,2 -22,2 -22,-2
Top Courtyard:
  lines w0.05: -22.4,-3.95 -22.4,3.95 22.4,3.95 22.4,-3.95 -22.4,-3.95
Top Component Center:
  lines w0.05: -0.5,0 0.5,0 ; 0,-0.5 0,0.5
3D body "62134421921.stp": height 6.7, standoff 0, extent -22,-3.1 22,3.1

## 62135021021 [mm] "Pin Header, pitch 1.27 mm, SMD, Vertical, dual row, 50p"
height 6.1
pads (50):
  rect 0.75x2.4 smd: 1(-15.24,-1.95) 2(-15.24,1.95) 3(-13.97,-1.95) 4(-13.97,1.95) 5(-12.7,-1.95) 6(-12.7,1.95) 7(-11.43,-1.95) 8(-11.43,1.95) 9(-10.16,-1.95) 10(-10.16,1.95) 11(-8.89,-1.95) 12(-8.89,1.95) 13(-7.62,-1.95) 14(-7.62,1.95) 15(-6.35,-1.95) 16(-6.35,1.95) 17(-5.08,-1.95) 18(-5.08,1.95) 19(-3.81,-1.95) 20(-3.81,1.95) 21(-2.54,-1.95) 22(-2.54,1.95) 23(-1.27,-1.95) 24(-1.27,1.95) 25(0,-1.95) 26(0,1.95) 27(1.27,-1.95) 28(1.27,1.95) 29(2.54,-1.95) 30(2.54,1.95) 31(3.81,-1.95) 32(3.81,1.95) 33(5.08,-1.95) 34(5.08,1.95) 35(6.35,-1.95) 36(6.35,1.95) 37(7.62,-1.95) 38(7.62,1.95) 39(8.89,-1.95) 40(8.89,1.95) 41(10.16,-1.95) 42(10.16,1.95) 43(11.43,-1.95) 44(11.43,1.95) 45(12.7,-1.95) 46(12.7,1.95) 47(13.97,-1.95) 48(13.97,1.95) 49(15.24,-1.95) 50(15.24,1.95)
Top Overlay:
  circle w0.25: c-16.355,-1.9 r0.125
Top Designator:
  text ".Designator" at -7.498,-0.5 h1.5
Top Component Outline:
  drawing of 154 lines, arcs and shapes, not listed
Top Courtyard:
  lines w0.05: -16.075,-3.35 -16.075,3.35 16.075,3.35 16.075,-3.35 -16.075,-3.35
Top Component Center:
  lines w0.05: -0.5,0 0.5,0 ; 0,-0.5 0,0.5
3D body "62135021021.stp": height 5.9, standoff 0, extent -15.875,-2.55 15.875,2.55

## 62200421121 [mm] "Pin Header, pitch 1.27 mm, THT, Vertical, dual row, 4p"
height 5.65
pads (4):
  rrect50% 0.95x0.95 hole 0.65: 1(-0.635,-0.635)
  round 0.95 hole 0.65: 2(-0.635,0.635) 3(0.635,-0.635) 4(0.635,0.635)
Top Overlay:
  circle w0.25: c-1.9,-0.65 r0.125
  lines w0.2: -1.42,-1.775 1.42,-1.775 1.42,1.775 -1.42,1.775 -1.42,-1.775
Top Designator:
  text ".Designator" at -3.499,-0.233 h0.7
Top Component Outline:
  lines w0.1: -1.27,-1.7 1.27,-1.7 1.27,1.7 -1.27,1.7 -1.27,-1.7
Top Courtyard:
  lines w0.05: -1.62,-1.975 1.62,-1.975 1.62,1.975 -1.62,1.975 -1.62,-1.975
Top Component Center:
  lines w0.05: -0.5,0 0.5,0 ; 0,-0.5 0,0.5
3D body "62200421121.stp": height 5.33, standoff -2.27, extent -1.27,-1.7 1.27,1.7

## 62200821121 [mm] "Pin Header, pitch 1.27 mm, THT, Vertical, dual row, 8p"
height 5.65
pads (8):
  rrect50% 0.95x0.95 hole 0.65: 1(-1.905,-0.635)
  round 0.95 hole 0.65: 2(-1.905,0.635) 3(-0.635,-0.635) 4(-0.635,0.635) 5(0.635,-0.635) 6(0.635,0.635) 7(1.905,-0.635) 8(1.905,0.635)
Top Overlay:
  circle w0.25: c-3.17,-0.65 r0.125
  lines w0.2: -2.69,-1.775 -2.69,1.775 2.69,1.775 2.69,-1.775 -2.69,-1.775
Top Designator:
  text ".Designator" at -4.998,-0.333 h1
Top Component Outline:
  lines w0.1: -2.54,-1.7 -2.54,1.7 2.54,1.7 2.54,-1.7 -2.54,-1.7
Top Courtyard:
  lines w0.05: -2.89,-1.975 -2.89,1.975 2.89,1.975 2.89,-1.975 -2.89,-1.975
Top Component Center:
  lines w0.05: -0.5,0 0.5,0 ; 0,-0.5 0,0.5
3D body "62200821121.stp": height 5.33, standoff -2.27, extent -2.54,-1.7 2.54,1.7

## 62201021121 [mm] "Pin Header, pitch 1.27 mm, THT, Vertical, dual row, 10p"
height 5.65
pads (10):
  rrect50% 0.95x0.95 hole 0.65: 1(-2.54,-0.635)
  round 0.95 hole 0.65: 2(-2.54,0.635) 3(-1.27,-0.635) 4(-1.27,0.635) 5(0,-0.635) 6(0,0.635) 7(1.27,-0.635) 8(1.27,0.635) 9(2.54,-0.635) 10(2.54,0.635)
Top Overlay:
  circle w0.25: c-3.805,-0.65 r0.125
  lines w0.2: -3.325,-1.775 3.325,-1.775 3.325,1.775 -3.325,1.775 -3.325,-1.775
Top Designator:
  text ".Designator" at -5.998,-0.4 h1.2
Top Component Outline:
  lines w0.1: -3.175,-1.7 3.175,-1.7 3.175,1.7 -3.175,1.7 -3.175,-1.7
Top Courtyard:
  lines w0.05: -3.525,-1.975 3.525,-1.975 3.525,1.975 -3.525,1.975 -3.525,-1.975
Top Component Center:
  lines w0.05: -0.5,0 0.5,0 ; 0,-0.5 0,0.5
3D body "62201021121.stp": height 5.33, standoff -2.27, extent -3.175,-1.7 3.175,1.7

## 62201421121 [mm] "Pin Header, pitch 1.27 mm, THT, Vertical, dual row, 14p"
height 5.65
pads (14):
  rrect50% 0.95x0.95 hole 0.65: 1(-3.81,-0.635)
  round 0.95 hole 0.65: 2(-3.81,0.635) 3(-2.54,-0.635) 4(-2.54,0.635) 5(-1.27,-0.635) 6(-1.27,0.635) 7(0,-0.635) 8(0,0.635) 9(1.27,-0.635) 10(1.27,0.635) 11(2.54,-0.635) 12(2.54,0.635) 13(3.81,-0.635) 14(3.81,0.635)
Top Overlay:
  circle w0.25: c-5.075,-0.65 r0.125
  lines w0.2: -4.595,-1.775 -4.595,1.775 4.595,1.775 4.595,-1.775 -4.595,-1.775
Top Designator:
  text ".Designator" at -7.498,-0.5 h1.5
Top Component Outline:
  lines w0.1: -4.445,-1.7 -4.445,1.7 4.445,1.7 4.445,-1.7 -4.445,-1.7
Top Courtyard:
  lines w0.05: -4.795,-1.975 -4.795,1.975 4.795,1.975 4.795,-1.975 -4.795,-1.975
Top Component Center:
  lines w0.05: -0.5,0 0.5,0 ; 0,-0.5 0,0.5
3D body "62201421121.stp": height 5.33, standoff -2.27, extent -4.445,-1.7 4.445,1.7